# Altium footprint library IC-LOGIC.PcbLib: 4 footprints
Each footprint in its own frame and in the unit in brackets; x right, y up, seen from the top. Pads: shape width x height; smd on the part's side, far side on the other; paste and mask are expansions set on the pad; w line width, h text height; cw(c..) or ccw(c..) is an arc to the next point about the centre after c.
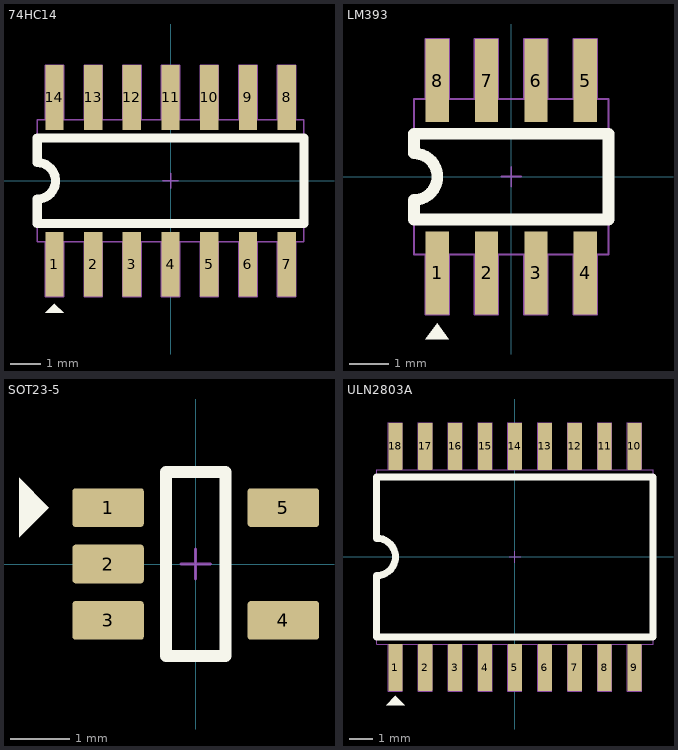
[diagram p0: the footprints below, top view; thin cyan lines are the x and y axes]

## 74HC14 [mm]
height 1.75
pads (14):
  rect 0.6x2.125 smd paste+0.1: 1(-3.81,-2.738) 2(-2.54,-2.738) 3(-1.27,-2.738) 4(0,-2.738) 5(1.27,-2.738) 6(2.54,-2.738) 7(3.81,-2.738) 8(3.81,2.738) 9(2.54,2.738) 10(1.27,2.738) 11(0,2.738) 12(-1.27,2.738) 13(-2.54,2.738) 14(-3.81,2.738)
Top Overlay:
  region: -3.81,-4.038 -4.11,-4.337 -3.51,-4.337
  lines w0.3: -4.375,-1.4 4.375,-1.4 4.375,1.4 -4.375,1.4 -4.375,0.6 cw(c-4.375,0) -4.375,-0.6 -4.375,-1.4
Top HCB:
  lines w0.05: -4.11,2 -4.11,3.8 -3.51,3.8 -3.51,2 ; -2.84,-2 -2.84,-3.8 -2.24,-3.8 -2.24,-2 ; -2.84,2 -2.84,3.8 -2.24,3.8 -2.24,2 ; -1.57,-2 -1.57,-3.8 -0.97,-3.8 -0.97,-2 ; -1.57,2 -1.57,3.8 -0.97,3.8 -0.97,2 ; -0.3,-2 -0.3,-3.8 0.3,-3.8 0.3,-2 ; -0.3,2 -0.3,3.8 0.3,3.8 0.3,2 ; -0.25,0 0.25,0 ; 0,-0.25 0,0.25 ; 0.97,-2 0.97,-3.8 1.57,-3.8 1.57,-2 ; 0.97,2 0.97,3.8 1.57,3.8 1.57,2 ; 2.24,-2 2.24,-3.8 2.84,-3.8 2.84,-2 ; 2.24,2 2.24,3.8 2.84,3.8 2.84,2 ; 3.51,-2 3.51,-3.8 4.11,-3.8 4.11,-2 ; 3.51,2 3.51,3.8 4.11,3.8 4.11,2 ; -4.375,-2 -4.375,-0.5 ccw(c-4.375,0) -4.375,0.5 -4.375,2 -3.81,2 4.375,2 4.375,-2 -4.375,-2 ; -4.11,-3.8 -4.11,-2 -3.51,-2 -3.51,-3.8 -4.11,-3.8
  text "1" at -4,-1.9 h1.2
  text "14" at -4.3,1.2 h1.2
  text "7" at 3.6,-1.9 h1.2
  text "8" at 3.6,1.2 h1.2
3D body "User Library-SOIC14-150-1.STEP": height 1.75, standoff 0, extent -4.3,-2.9 4.23,2.9

## LM393 [mm]
height 1.75
pads (8):
  rect 0.6x2.135 smd paste+0.1: 1(-1.905,-2.47) 2(-0.635,-2.47) 3(0.635,-2.47) 4(1.905,-2.47) 5(1.905,2.47) 6(0.635,2.47) 7(-0.635,2.47) 8(-1.905,2.47)
Top Overlay:
  region: -1.905,-3.77 -2.205,-4.17 -1.605,-4.17
  lines w0.3: -2.5,-1.1 -2.5,-0.6 ccw(c-2.5,0) -2.5,0.6 -2.5,1.1 2.5,1.1 2.5,-1.1 -2.5,-1.1
Top HCB:
  lines w0.05: -2.205,-2 -2.205,-3.537 -1.605,-3.537 -1.605,-2 ; -2.205,2 -2.205,3.537 -1.605,3.537 -1.605,2 ; -0.94,-2 -0.94,-3.537 -0.34,-3.537 -0.34,-2 ; -0.94,2 -0.94,3.537 -0.34,3.537 -0.34,2 ; -0.25,0 0,0 0.25,0 ; 0,-0.25 0,0.25 ; 0.33,-2 0.33,-3.537 0.93,-3.537 0.93,-2 ; 0.33,2 0.33,3.537 0.93,3.537 0.93,2 ; 1.6,-2 1.6,-3.537 2.2,-3.537 2.2,-2 ; 1.6,2 1.6,3.537 2.2,3.537 2.2,2 ; -2.5,-2 -2.5,-0.64 ccw(c-2.5,0) -2.5,0.64 -2.5,2 2.5,2 2.5,-2 -2.5,-2
  text "4" at 1.708,-1.905 h1
  text "5" at 1.708,1.305 h1
  text "1" at -2.099,-1.905 h1
  text "8" at -2.099,1.3 h1
3D body "lm393ad.stp": height 1.73, standoff 0, extent -2.401,-3.011 2.5,3.011

## SOT23-5 [mm]
height 0.6
pads (5):
  rrect15% 1.2x0.65 smd mask+0.1: 1(-1.475,0.95) 2(-1.475,0) 3(-1.475,-0.95) 4(1.475,-0.95) 5(1.475,0.95)
Top Overlay:
  region: -2.475,0.95 -2.975,1.45 -2.975,0.45
  lines w0.2: -0.5,-1.55 0.5,-1.55 0.5,1.55 -0.5,1.55 -0.5,-1.55
Top HCB:
  lines w0.05: -0.25,0 0.25,0 ; 0,-0.25 0,0.25
3D body "DBV0005AaksMF05A.stp": height 1.08, standoff -0.01, extent -1.422,-1.461 1.422,1.46

## ULN2803A [mm] "ULN2803A Darlington Transistor Arrays"
height 2.65
pads (18):
  rrect10% 0.6x2 smd mask+0.1: 1(-5.08,-4.7) 2(-3.81,-4.7) 3(-2.54,-4.7) 4(-1.27,-4.7) 5(0,-4.7) 6(1.27,-4.7) 7(2.54,-4.7) 8(3.81,-4.7) 9(5.08,-4.7) 10(5.08,4.7) 11(3.81,4.7) 12(2.54,4.7) 13(1.27,4.7) 14(0,4.7) 15(-1.27,4.7) 16(-2.54,4.7) 17(-3.81,4.7) 18(-5.08,4.7)
Top Overlay:
  region: -5.08,-5.9 -5.48,-6.3 -4.68,-6.3
  lines w0.3: -5.875,-3.4 -5.875,-0.795 ccw(c-5.875,0) -5.875,0.795 -5.875,3.4 5.875,3.4 5.875,-3.4 -5.875,-3.4
Top HCB:
  lines w0.05: -5.38,-3.7 -5.38,-5.7 -4.78,-5.7 -4.78,-3.7 ; -5.38,3.7 -5.38,5.7 -4.78,5.7 -4.78,3.7 ; -4.11,-3.7 -4.11,-5.7 -3.51,-5.7 -3.51,-3.7 ; -4.11,3.7 -4.11,5.7 -3.51,5.7 -3.51,3.7 ; -2.84,-3.7 -2.84,-5.7 -2.24,-5.7 -2.24,-3.7 ; -2.84,3.7 -2.84,5.7 -2.24,5.7 -2.24,3.7 ; -1.57,-3.7 -1.57,-5.7 -0.97,-5.7 -0.97,-3.7 ; -1.57,3.7 -1.57,5.7 -0.97,5.7 -0.97,3.7 ; -0.3,-3.7 -0.3,-5.7 0.3,-5.7 0.3,-3.7 ; -0.3,3.7 -0.3,5.7 0.3,5.7 0.3,3.7 ; -0.25,0 0.25,0 ; 0,-0.25 0,0.25 ; 0.97,-3.7 0.97,-5.7 1.57,-5.7 1.57,-3.7 ; 0.97,3.7 0.97,5.7 1.57,5.7 1.57,3.7 ; 2.24,-3.7 2.24,-5.7 2.84,-5.7 2.84,-3.7 ; 2.24,3.7 2.24,5.7 2.84,5.7 2.84,3.7 ; 3.51,-3.7 3.51,-5.7 4.11,-5.7 4.11,-3.7 ; 3.51,3.7 3.51,5.7 4.11,5.7 4.11,3.7 ; 4.78,-3.7 4.78,-5.7 5.38,-5.7 5.38,-3.7 ; 4.78,3.7 4.78,5.7 5.38,5.7 5.38,3.7 ; -5.875,-3.7 -5.875,-0.795 ccw(c-5.875,0) -5.875,0.795 -5.875,3.7 5.875,3.7 5.875,-3.7 -5.875,-3.7
  text "18" at -5.529,2.683 h1
  text "10" at 4.673,2.683 h1
  text "9" at 4.889,-3.317 h1
  text "1" at -5.218,-3.322 h1
3D body "SOIC18 wide.stp": height 2, standoff 0, extent -5.675,-5.082 5.675,5.082